# Altium footprint library SDE0604A.PcbLib: 1 footprints
Each footprint in its own frame and in the unit in brackets; x right, y up, seen from the top. Pads: shape width x height; smd on the part's side, far side on the other; paste and mask are expansions set on the pad; w line width, h text height; cw(c..) or ccw(c..) is an arc to the next point about the centre after c.
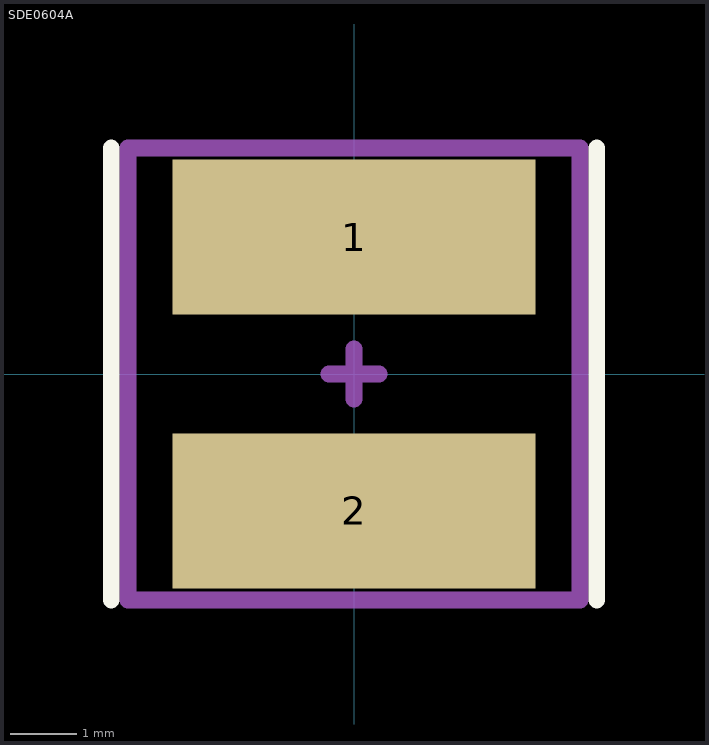
[diagram p0: the footprint, top view; thin cyan lines are the x and y axes]

## SDE0604A [mm]
pads (2):
  rect 5.5x2.35 smd mask+0.051: 1(0,2.075) 2(0,-2.075)
Top Overlay:
  lines w0.254: -3.683,-3.429 -3.683,3.429 ; 3.683,-3.429 3.683,3.429
Mechanical 13:
  lines w0.254: -3.429,-3.429 3.429,-3.429 3.429,3.429 -3.429,3.429 -3.429,-3.429
Mechanical 15:
  lines w0.254: -0.381,0 0,0 ; 0,-0.381 0,0 ; 0,0.381 0,0 ; 0.381,0 0,0
3D body "SDE0604A-180M.stp": height 4.5, standoff 0, extent -2.61,-2.902 2.59,2.677